# Altium footprint library altium_footprint.PcbLib: 36 footprints (part 1 of 3)
Each footprint in its own frame and in the unit in brackets; x right, y up, seen from the top. Pads: shape width x height; smd on the part's side, far side on the other; paste and mask are expansions set on the pad; w line width, h text height; cw(c..) or ccw(c..) is an arc to the next point about the centre after c.
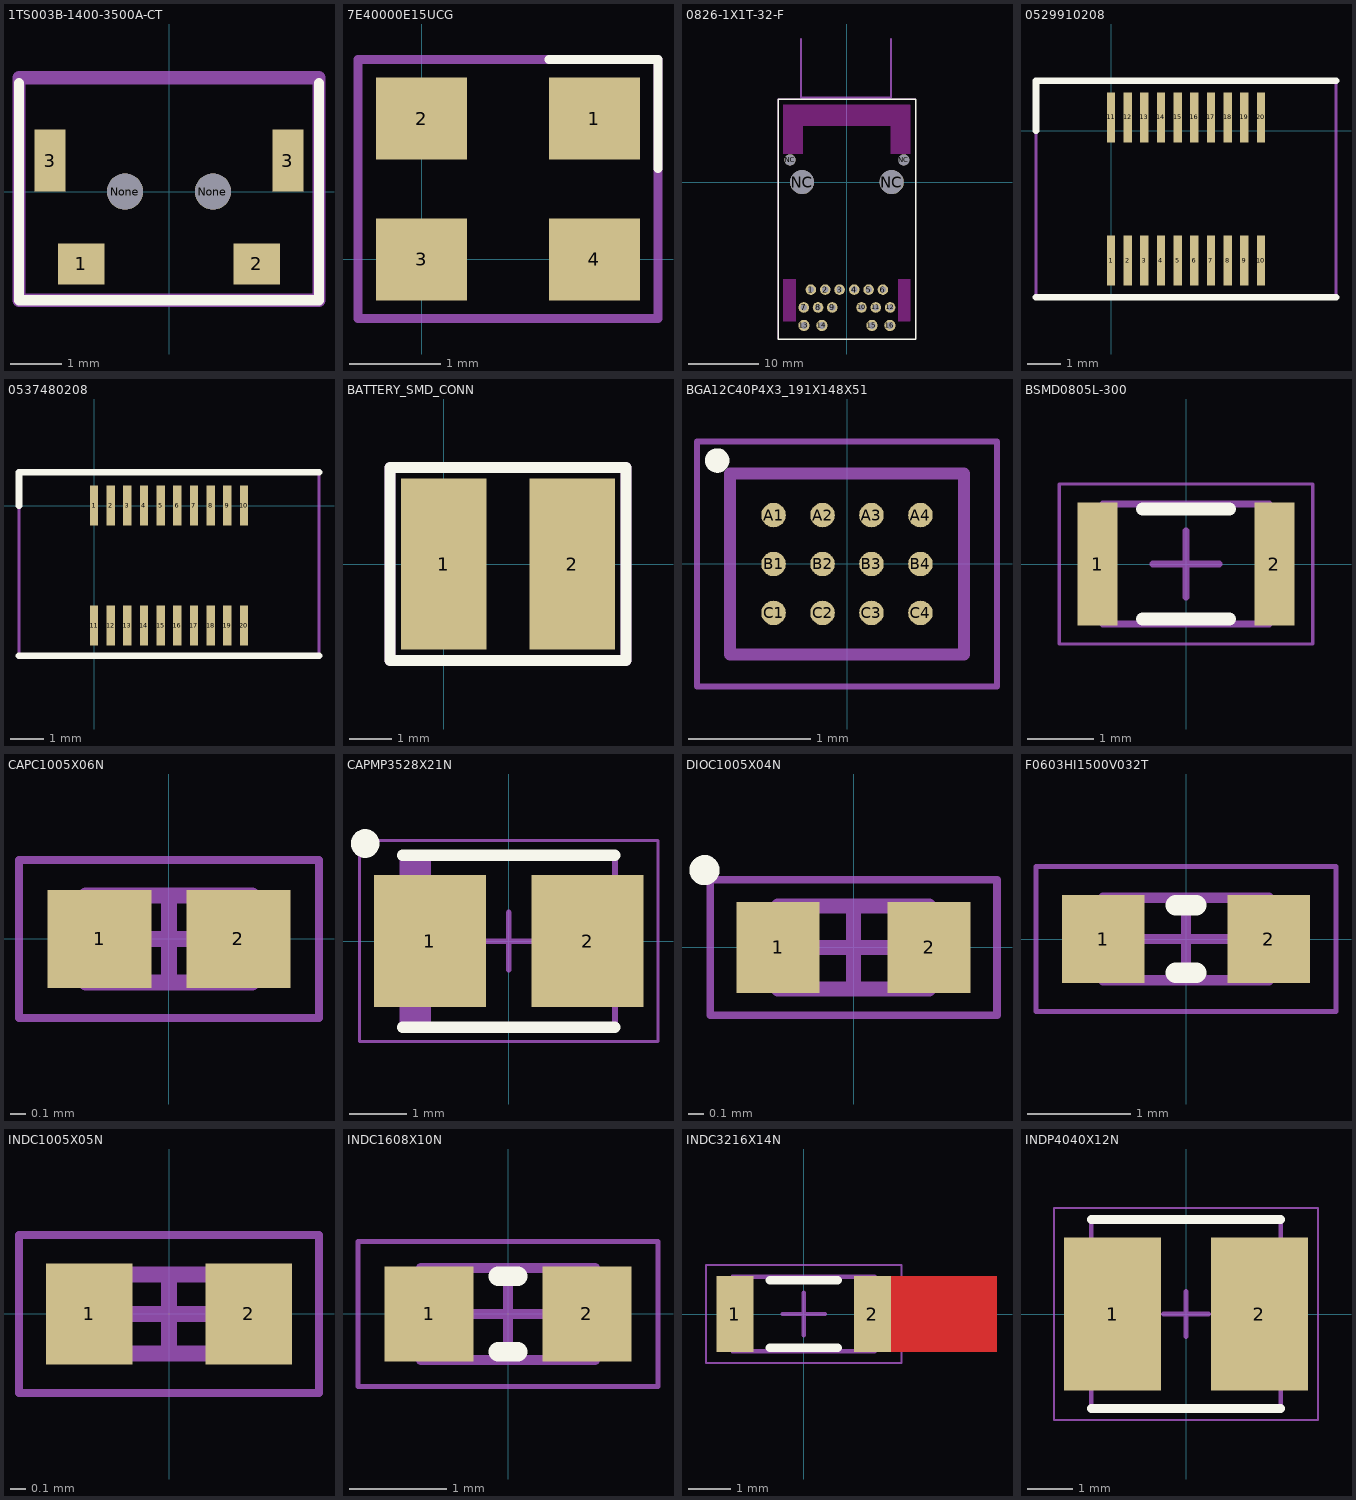
[diagram p0: the footprints below, top view; thin cyan lines are the x and y axes]

## 1TS003B-1400-3500A-CT [mm] "1TS003B-1400-3500A-CT"
pads (6):
  rect 0.9x0.8 smd: 1(-1.7,-1.4) 2(1.7,-1.4)
  rect 0.6x1.2 smd: 3(-2.3,0.6) 3(2.3,0.6)
  round 0.7 hole 0.7 mask+0.102: None(-0.85,0) None(0.85,0)
Top Overlay:
  lines w0.2: -2.9,2.1 -2.9,-2.1 2.9,-2.1 2.9,2.1
Top Assembly:
  lines w0.254: -2.9,-2.1 2.9,-2.1 2.9,2.2 -2.9,2.2 -2.9,-2.1
Top Courtyard:
  lines w0.05: -2.9,-2.1 2.9,-2.1 2.9,2.2 -2.9,2.2 -2.9,-2.1
3D body "1TS003B.step": height 1.91, standoff -0.39, extent -2.36,-1.55 2.34,2.1

## 7E40000E15UCG [mm] "7E40000E15UCG"
pads (4):
  rect 1x0.9 smd: 1(1.9,1.55) 2(0,1.55) 3(0,0) 4(1.9,0)
Top Overlay:
  lines w0.1: 1.4,2.2 2.6,2.2 2.6,1
Top Assembly:
  lines w0.1: -0.7,-0.65 2.6,-0.65 2.6,2.2 -0.7,2.2 -0.7,-0.65
Top Courtyard:
  lines w0.05: -0.7,-0.65 -0.7,2.2 2.6,2.2 2.6,-0.65 -0.7,-0.65
3D body: height 0.55, standoff 0, extent -0.312,-0.25 2.262,1.8

## 0826-1X1T-32-F [mm]
pads (20):
  round 1.5 hole 0.89: 1(-5.11,-15.24) 2(-3.08,-15.24) 3(-1.05,-15.24) 4(1.05,-15.24) 5(3.08,-15.24) 6(5.11,-15.24) 7(-6.13,-17.78) 8(-4.1,-17.78) 9(-2.07,-17.78) 10(2.07,-17.78) 11(4.1,-17.78) 12(6.13,-17.78)
  round 1.6 hole 1.02: 13(-6.095,-20.32) 14(-3.555,-20.32) 15(3.555,-20.32) 16(6.095,-20.32)
  round 1.57 hole 1.57: NC(-8.065,3.17) NC(8.065,3.17)
  round 3.4 hole 3.4: NC(-6.35,0) NC(6.35,0)
Top Overlay:
  lines w0.2: -9.75,-22.25 9.75,-22.25 9.75,11.75 -9.75,11.75 -9.75,-22.25
Keep-Out Layer:
  region: -9,4 -6.25,4 -6.25,8 6.25,8 6.25,4 9,4 9,11 -9,11
  region: 7.25,-19.75 7.25,-13.75 9,-13.75 9,-19.75
  region: -7.25,-19.75 -7.25,-13.75 -9,-13.75 -9,-19.75
Top Assembly:
  lines w0.1: -9.75,-22.25 9.75,-22.25 9.75,11.75 -9.75,11.75 -9.75,-22.25
External:
  lines w0.254: -6.5,20.31 -6.5,12 6.25,12 6.25,20.31
  text "RJ45" at -2.996,15.254 h1.52
Top Courtyard:
  lines w0.05: -9.75,-22.25 -9.75,11.8 9.775,11.8 9.775,-22.25 -9.75,-22.25
3D body "0826-1X1T-32-F.stp": height 15.15, standoff -3.5, extent -9.525,-21.874 9.469,11.524

## 0529910208 [mm]
pads (20):
  rect 0.25x1.5 smd: 1(0,-3.9) 2(0.5,-3.9) 3(1,-3.9) 4(1.5,-3.9) 5(2,-3.9) 6(2.5,-3.9) 7(3,-3.9) 8(3.5,-3.9) 9(4,-3.9) 10(4.5,-3.9) 11(0,0.4) 12(0.5,0.4) 13(1,0.4) 14(1.5,0.4) 15(2,0.4) 16(2.5,0.4) 17(3,0.4) 18(3.5,0.4) 19(4,0.4) 20(4.5,0.4)
Top Overlay:
  lines w0.2: -2.25,-5 6.75,-5 ; -2.25,0 -2.25,1.5 6.75,1.5
Top Assembly:
  lines w0.1: -2.25,-5 -2.25,1.5 6.75,1.5 6.75,-5 -2.25,-5
Top Courtyard:
  lines w0.05: -2.25,-5 -2.25,1.5 6.75,1.5 6.75,-5 -2.25,-5
3D body "529910208.stp": height 2.31, standoff 0.01, extent -2.15,-4.45 6.65,0.95

## 0537480208 [mm]
pads (20):
  rect 0.25x1.2 smd: 1(0,0) 2(0.5,0) 3(1,0) 4(1.5,0) 5(2,0) 6(2.5,0) 7(3,0) 8(3.5,0) 9(4,0) 10(4.5,0) 11(0,-3.6) 12(0.5,-3.6) 13(1,-3.6) 14(1.5,-3.6) 15(2,-3.6) 16(2.5,-3.6) 17(3,-3.6) 18(3.5,-3.6) 19(4,-3.6) 20(4.5,-3.6)
Top Overlay:
  lines w0.2: -2.25,-4.5 6.75,-4.5 ; -2.25,0 -2.25,1 6.75,1
Top Assembly:
  lines w0.1: -2.25,-4.5 -2.25,1 6.75,1 6.75,-4.5 -2.25,-4.5
Top Courtyard:
  lines w0.05: -2.25,-4.5 -2.25,1 6.75,1 6.75,-4.5 -2.25,-4.5
3D body "537480208.stp": height 2.44, standoff 0.01, extent -2.15,-3.9 6.65,0.4

## BATTERY_SMD_CONN [mm]
pads (2):
  rect 2x4 smd: 1(0,0) 2(3,0)
Top Overlay:
  lines w0.254: -1.25,-2.25 4.25,-2.25 4.25,2.25 -1.25,2.25 -1.25,-2.25
Top Assembly:
  lines w0.254: -1.25,-2.25 -1.25,2.25 4.25,2.25 4.25,-2.25 -1.25,-2.25
Top Courtyard:
  lines w0.254: -1.25,-2.25 -1.25,2.25 4.25,2.25 4.25,-2.25 -1.25,-2.25

## BGA12C40P4X3_191X148X51 [mm] "BGA, 12-Leads, Body 1.91x1.48mmx0.51mm, Pitch 0.40mm"
height 0.51
pads (12):
  round 0.2 smd: A1(-0.6,0.4) A2(-0.2,0.4) A3(0.2,0.4) A4(0.6,0.4) B1(-0.6,0) B2(-0.2,0) B3(0.2,0) B4(0.6,0) C1(-0.6,-0.4) C2(-0.2,-0.4) C3(0.2,-0.4) C4(0.6,-0.4)
Top Overlay:
  circle w0.1: c-1.06,0.845 r0.05
Top Assembly:
  lines w0.1: -0.955,-0.74 0.955,-0.74 0.955,0.74 -0.955,0.74 -0.955,-0.74
Top Courtyard:
  lines w0.05: -1.225,-1 1.225,-1 1.225,1 -1.225,1 -1.225,-1
3D body: height 0.51, standoff 0.18, extent -0.955,-0.74 0.955,0.74

## BSMD0805L-300 [mm] "BSMD0805L-300"
height 1
pads (2):
  rect 0.6x1.85 smd: 1(-1.325,0) 2(1.325,0)
Top Overlay:
  lines w0.2: -0.65,-0.825 0.65,-0.825 ; -0.65,0.825 0.65,0.825
Top Assembly:
  lines w0.1: -1.25,-0.9 -1.25,0.9 1.25,0.9 1.25,-0.9 -1.25,-0.9
Top Courtyard:
  lines w0.05: -1.9,-1.2 -1.9,1.2 1.9,1.2 1.9,-1.2 -1.9,-1.2
  lines w0.1: -0.5,0 0.5,0 ; 0,-0.5 0,0.5
3D body: height 1, standoff 0, extent -1.05,-0.9 1.05,0.9
3D body: height 1, standoff 0, extent -1.25,-0.9 -1.05,0.9
3D body: height 1, standoff 0, extent 1.05,-0.9 1.25,0.9

## CAPC1005X06N [mm] "Chip Capacitor, 2-Leads, Body 1.00x0.50mm, IPC Medium Density"
height 0.55
pads (2):
  rect 0.66x0.62 smd: 1(-0.44,0) 2(0.44,0)
Top Assembly:
  lines w0.1: -0.525,-0.275 -0.525,0.275 0.525,0.275 0.525,-0.275 -0.525,-0.275
Top Courtyard:
  lines w0.05: -0.95,-0.5 -0.95,0.5 0.95,0.5 0.95,-0.5 -0.95,-0.5
  lines w0.1: -0.275,0 0.275,0 ; 0,-0.275 0,0.275
3D body: height 0.55, standoff 0, extent -0.275,-0.275 0.275,0.275
3D body: height 0.55, standoff 0, extent -0.525,-0.275 -0.275,0.275
3D body: height 0.55, standoff 0, extent 0.275,-0.275 0.525,0.275

## CAPMP3528X21N [mm] "Molded Capacitor, 2-Leads, Body 3.50x2.80mm, IPC Medium Density"
height 2.1
pads (2):
  rect 1.95x2.3 smd: 1(-1.375,0) 2(1.375,0)
Top Overlay:
  circle w0.25: c-2.5,1.7 r0.125
  lines w0.2: -1.85,-1.5 1.85,-1.5 ; -1.85,1.5 1.85,1.5
Top Assembly:
  rectangle: -1.85,-1.5 -1.352,1.5
  lines w0.1: -1.85,-1.5 -1.85,1.5 1.85,1.5 1.85,-1.5 -1.85,-1.5
Top Courtyard:
  lines w0.05: -2.6,-1.75 -2.6,1.75 2.6,1.75 2.6,-1.75 -2.6,-1.75
  lines w0.1: -0.5,0 0.5,0 ; 0,-0.5 0,0.5
3D body: height 2.1, standoff 0, extent -1.85,-1.5 1.85,1.5

## DIOC1005X04N [mm] "Chip Diode, 2-Leads, Body 1.00x0.50mm, IPC Medium Density"
height 0.4
pads (2):
  rect 0.55x0.6 smd: 1(-0.5,0) 2(0.5,0)
Top Overlay:
  circle w0.1: c-0.987,0.512 r0.05
Top Assembly:
  lines w0.1: -0.5,-0.275 -0.5,0.275 0.5,0.275 0.5,-0.275 -0.5,-0.275
Top Courtyard:
  lines w0.05: -0.95,-0.45 -0.95,0.45 0.95,0.45 0.95,-0.45 -0.95,-0.45
  lines w0.1: -0.275,0 0.275,0 ; 0,-0.275 0,0.275
3D body: height 0.4, standoff 0, extent -0.3,-0.275 0.3,0.275
3D body: height 0.4, standoff 0, extent -0.5,-0.275 -0.3,0.275
3D body: height 0.4, standoff 0, extent 0.3,-0.275 0.5,0.275

## F0603HI1500V032T [mm] "F0603HI1500V032T"
height 0.95
pads (2):
  rect 0.8x0.85 smd: 1(-0.8,0) 2(0.8,0)
Top Overlay:
  lines w0.2: -0.1,-0.325 0.1,-0.325 ; -0.1,0.325 0.1,0.325
Top Assembly:
  lines w0.1: -0.8,-0.4 0.8,-0.4 0.8,0.4 -0.8,0.4 -0.8,-0.4
Top Courtyard:
  lines w0.05: -1.45,-0.7 1.45,-0.7 1.45,0.7 -1.45,0.7 -1.45,-0.7
  lines w0.1: -0.4,0 0.4,0 ; 0,-0.4 0,0.4
3D body: height 0.95, standoff 0, extent 0.44,-0.4 0.8,0.4
3D body: height 0.95, standoff 0, extent -0.8,-0.4 -0.44,0.4
3D body: height 0.95, standoff 0, extent -0.44,-0.4 0.44,0.4

## INDC1005X05N [mm] "Chip Inductor, 2-Leads, Body 1.00x0.50mm, IPC Medium Density"
height 0.5
pads (2):
  rect 0.55x0.64 smd: 1(-0.505,0) 2(0.505,0)
Top Assembly:
  lines w0.1: -0.5,-0.25 -0.5,0.25 0.5,0.25 0.5,-0.25 -0.5,-0.25
Top Courtyard:
  lines w0.05: -0.95,-0.5 -0.95,0.5 0.95,0.5 0.95,-0.5 -0.95,-0.5
  lines w0.1: -0.25,0 0.25,0 ; 0,-0.25 0,0.25
3D body: height 0.5, standoff 0, extent -0.3,-0.25 0.3,0.25
3D body: height 0.5, standoff 0, extent -0.5,-0.25 -0.3,0.25
3D body: height 0.5, standoff 0, extent 0.3,-0.25 0.5,0.25

## INDC1608X10N [mm] "Chip Inductor, 2-Leads, Body 1.65x0.80mm, IPC Medium Density"
height 0.95
pads (2):
  rect 0.92x0.98 smd: 1(-0.815,0) 2(0.815,0)
Top Overlay:
  lines w0.2: -0.1,-0.39 0.1,-0.39 ; -0.1,0.39 0.1,0.39
Top Assembly:
  lines w0.1: -0.9,-0.475 -0.9,0.475 0.9,0.475 0.9,-0.475 -0.9,-0.475
Top Courtyard:
  lines w0.05: -1.55,-0.75 -1.55,0.75 1.55,0.75 1.55,-0.75 -1.55,-0.75
  lines w0.1: -0.475,0 0.475,0 ; 0,-0.475 0,0.475
3D body: height 0.95, standoff 0, extent -0.6,-0.475 0.6,0.475
3D body: height 0.95, standoff 0, extent -0.9,-0.475 -0.6,0.475
3D body: height 0.95, standoff 0, extent 0.6,-0.475 0.9,0.475

## INDC3216X14N [mm] "Chip Inductor, 2-Leads, Body 3.20x1.60mm, IPC Medium Density"
height 1.45
pads (2):
  rect 0.87x1.78 smd: 1(-1.62,0) 2(1.62,0)
Top Layer:
  rectangle: 2.05,-0.89 4.55,0.89
Top Overlay:
  lines w0.2: -0.8,-0.79 0.8,-0.79 ; -0.8,0.79 0.8,0.79
  text "." at -2.046,1.404 h0.7
Top Assembly:
  lines w0.1: -1.675,-0.875 1.675,-0.875 1.675,0.875 -1.675,0.875 -1.675,-0.875
Top Courtyard:
  lines w0.05: -2.3,-1.15 2.3,-1.15 2.3,1.15 -2.3,1.15 -2.3,-1.15
  lines w0.1: -0.5,0 0.5,0 ; 0,-0.5 0,0.5
3D body: height 1.45, standoff 0, extent 1.375,-0.875 1.675,0.875
3D body: height 1.45, standoff 0, extent -1.675,-0.875 -1.375,0.875
3D body: height 1.45, standoff 0, extent -1.375,-0.875 1.375,0.875

## INDP4040X12N [mm] "Precision Wire Wound Inductor, 2-Leads, Body 4.00x4.00mm, IPC Medium Density"
height 1.2
pads (2):
  rect 2.15x3.4 smd: 1(-1.625,0) 2(1.625,0)
Top Overlay:
  lines w0.2: -2.1,-2.1 2.1,-2.1 ; -2.1,2.1 2.1,2.1
Top Assembly:
  lines w0.1: -2.1,-2.1 2.1,-2.1 2.1,2.1 -2.1,2.1 -2.1,-2.1
Top Courtyard:
  lines w0.05: -2.925,-2.35 2.925,-2.35 2.925,2.35 -2.925,2.35 -2.925,-2.35
  lines w0.1: -0.5,0 0.5,0 ; 0,-0.5 0,0.5
3D body: height 1.2, standoff 0, extent -2.1,-2.1 2.1,2.1